# Altium schematic symbol library Gravix-Connectors.SchLib: 1 symbol
Pins are listed as number, name and electrical type; pins without a type are passive.

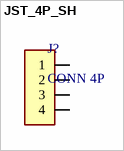
[diagram p0: symbol JST_4P_SH]

## JST_4P_SH
designator J?, comment CONN 4P
Connector Header 4 position 1mm Pitch 1A Surface Mount, Right Angle -25℃~+85℃; Manufacturer: JST; Manufacturer Part Number: SM04B-SRSS-TB(LF)(SN); LCSC Part Number: C160404; Package: SMD,P=1mm,Surface Mount,Right Angle; ComponentLink1Description: Digikey Link; Mounting Type: SMD; ComponentLink2Description: LCSC Link; ComponentLink2URL: https://www.lcsc.com/product-detail/C160404.html?spm=wm.fly.bg.0.xh&lcsc_vid=QlAIX1RQQQJfX1VRTwcNAQJXTlRaUQBVEQBYAwJfFFcxVlNRT1RYUldfQ1BaVTsOAxUeFF5JWBYZEEoKFBINSQcJGk4NBhADEA4cHktRTlNADxALGw%3D%3D
footprint JST_SH_1.00
pins: 1, 2, 3, 4